# Altium footprint library Altium LCOGT PCB LIB.PCBLIB: 329 footprints (part 16 of 21)
Each footprint in its own frame and in the unit in brackets; x right, y up, seen from the top. Pads: shape width x height; smd on the part's side, far side on the other; paste and mask are expansions set on the pad; w line width, h text height; cw(c..) or ccw(c..) is an arc to the next point about the centre after c.
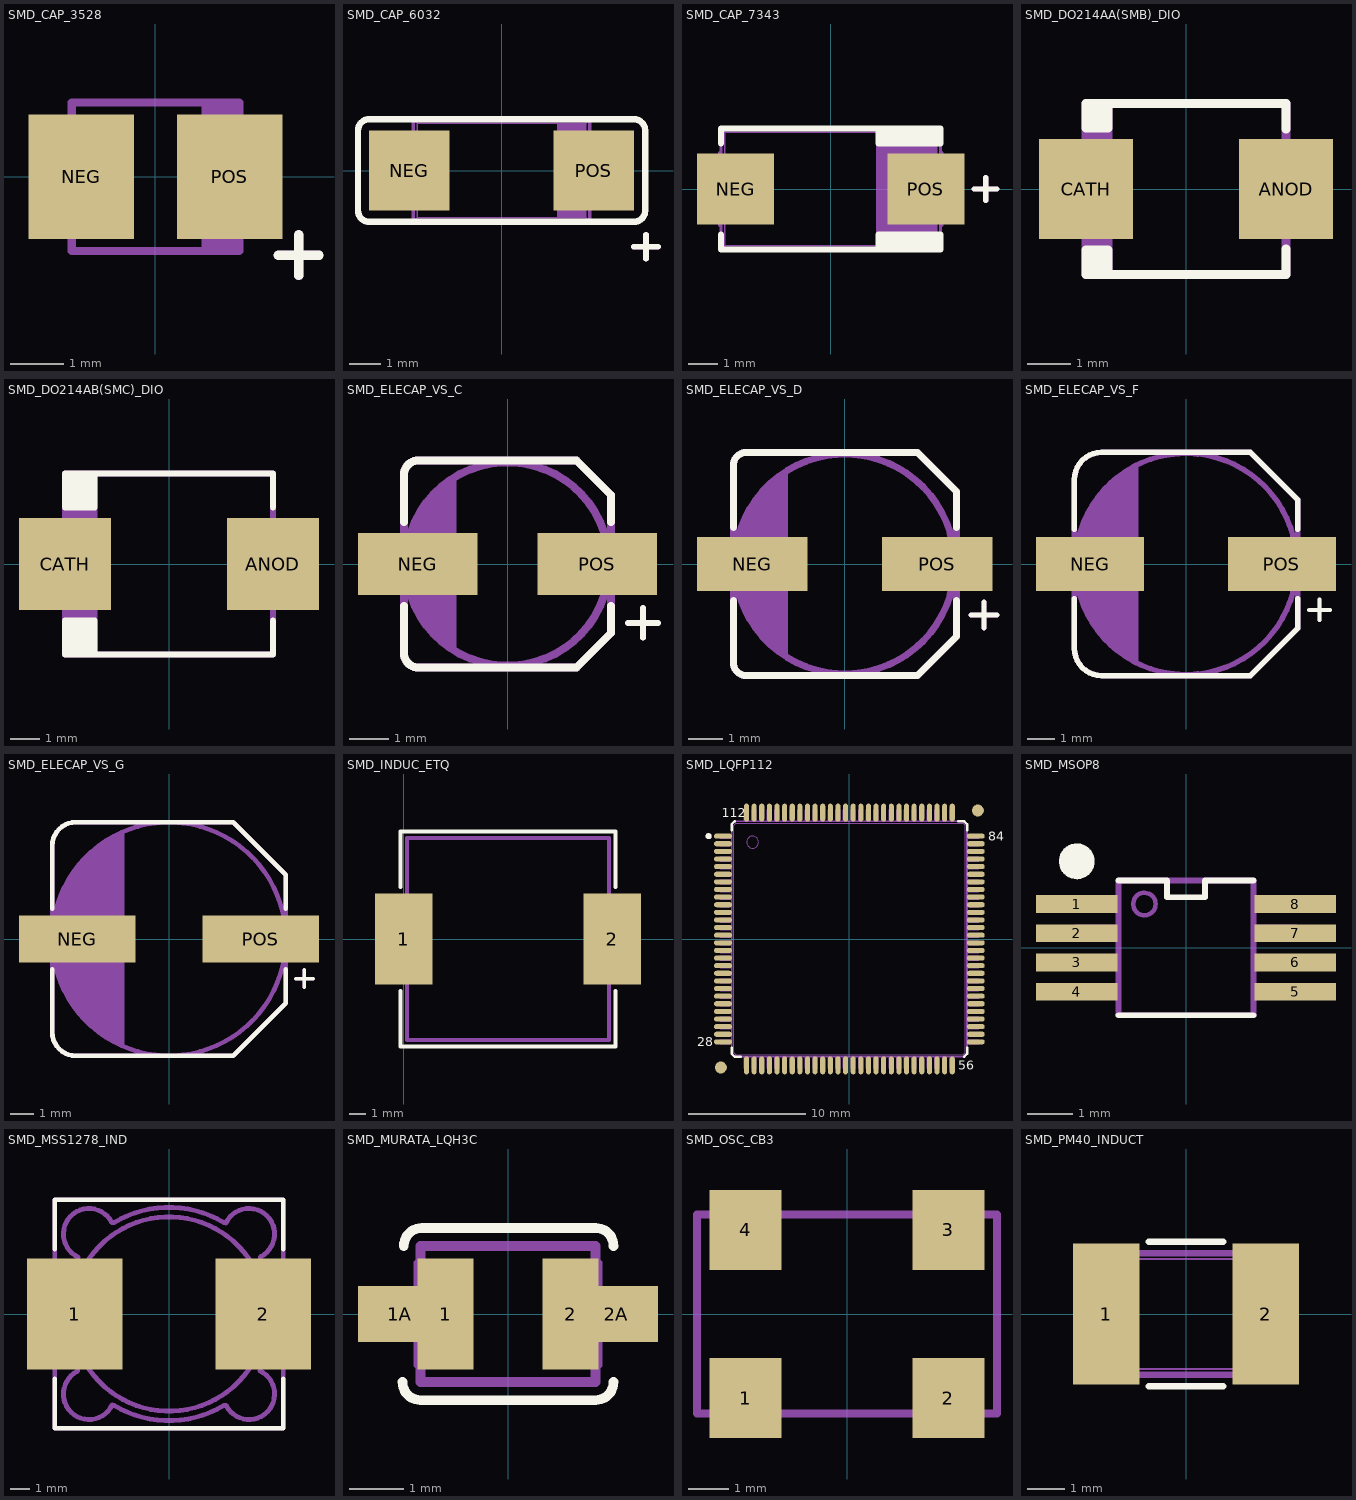
[diagram p15: the footprints below, top view; thin cyan lines are the x and y axes]

## SMD_CAP_3528 [mil]
pads (2):
  rect 78x92 smd: NEG(-55,0) POS(55,0)
TopOverlay:
  lines w7: 91,-58 121,-58 ; 106,-73 106,-43
Mechanical3:
  rectangle: 36,-55 62,55
  lines w4: -62,-43 -69,-43 -69,43 -62,43 ; 36,-55 36,55 ; 62,-43 69,-43 69,43 62,43
  lines w6: -62,-55 62,-55 62,55 -62,55 -62,-55
  lines w7: 91,-58 121,-58 ; 106,-73 106,-43

## SMD_CAP_6032 [mil]
pads (2):
  rect 100x100 smd: NEG(-115,0) POS(115,0)
TopOverlay:
  lines w7: 165,-95 195,-95 ; 180,-110 180,-80
  lines w8: -179,-50 ccw(c-165,-50) -165,-64 165,-64 ccw(c165,-50) 179,-50 179,50 ccw(c165,50) 165,64 -165,64 ccw(c-165,50) -179,50 -179,-50
Mechanical3:
  rectangle: 70,-59 105,59
  lines w2: -110,-63 -105,-59 ; -110,63 -105,59 ; 70,-59 70,59 ; 110,-63 105,-59 ; 110,63 105,59 ; -105,-59 105,-59 ; -105,-59 -105,59 ; -105,59 105,59 ; 105,-59 105,59
  lines w4: -110,-44 -114,-44 -114,44 -110,44 ; 110,-44 114,-44 114,-16 110,-16 ; 110,16 114,16 114,44 110,44 ; -110,-63 110,-63 110,63 -110,63 -110,-63
  lines w7: 165,-95 195,-95 ; 180,-110 180,-80

## SMD_CAP_7343 [mil]
pads (2):
  rect 102x94 smd: NEG(-126,0) POS(126,0)
TopOverlay:
  rectangle: 63,-80 145,-60
  rectangle: 63,60 145,80
  lines w7: 190,0 220,0 ; 205,-15 205,15
  lines w8: -145,-60 -145,-80 145,-80 145,-60 63,-60 63,-80 ; -145,60 -145,80 145,80 145,60 63,60 63,80
Mechanical3:
  rectangle: 60,-75 140,75
  lines w2: -145,-80 -140,-75 ; -145,80 -140,75 ; 145,-80 140,-75 ; 145,80 140,75 ; -140,-75 140,-75 ; -140,-75 -140,75 ; -140,75 140,75 ; 140,-75 140,75
  lines w4: -145,-48 -147,-48 -147,48 -145,48 ; 145,-48 147,-48 147,48 145,48 ; -145,-80 145,-80 145,80 -145,80 -145,-80
  lines w7: 190,0 220,0 ; 205,-15 205,15

## SMD_DO214AA(SMB)_DIO [mil]
pads (2):
  rect 85x90 smd: ANOD(90,0) CATH(-90,0)
TopOverlay:
  rectangle: -90,55 -70,77
  rectangle: -90,-77 -70,-55
  lines w8: -70,-77 -70,-55 -90,-55 -90,-77 90,-77 90,-54 ; -70,77 -70,55 -90,55 -90,77 90,77 90,54
Mechanical3:
  rectangle: -90,-77 -70,77
  lines w4: -90,-42 -110,-42 -110,42 -90,42 ; 90,-42 110,-42 110,42 90,42
  lines w8: -70,-77 -70,77 ; -90,-77 -90,77 90,77 90,-77 -90,-77

## SMD_DO214AB(SMC)_DIO [mil]
pads (2):
  rect 124x124 smd: ANOD(140,0) CATH(-140,0)
TopOverlay:
  rectangle: -140,76 -100,122
  rectangle: -140,-122 -100,-76
  lines w8: -100,-122 -100,-76 -140,-76 -140,-122 140,-122 140,-76 ; -100,122 -100,76 -140,76 -140,122 140,122 140,76
Mechanical3:
  rectangle: -138,-122 -100,122
  lines w4: -140,-60 -160,-60 -160,60 -140,60 ; 140,-60 160,-60 160,60 140,60
  lines w8: -100,-122 -100,122 ; -140,-122 140,-122 140,122 -140,122 -140,-122

## SMD_ELECAP_VS_C [mil]
pads (2):
  rect 120x62 smd: NEG(-90,0) POS(90,0)
TopOverlay:
  lines w6: 121,-59 151,-59 ; 136,-74 136,-44
  lines w8: -104,-42 -104,-89 ccw(c-89,-89) -89,-104 69,-104 104,-69 104,-42 ; -104,42 -104,89 cw(c-89,89) -89,104 69,104 104,69 104,42
Mechanical3:
  circle w8: c0,0 r102
  lines w4: -104,-12 -120,-12 -120,12 -104,12 ; 104,-12 120,-12 120,12 104,12
  lines w6: 121,-59 151,-59 ; 136,-74 136,-44
  lines w8: -99,-25 -99,25 ; -95,-32 -95,32 ; -91,-40 -91,40 ; -87,-48 -87,48 ; -83,-55 -83,55 ; -79,-59 -79,59 ; -75,-64 -75,65 ; -71,-69 -71,69 ; -67,-73 -67,73 ; -63,-77 -63,76 ; -59,-82 -59,82 ; -55,-85 -55,84 ; -104,-89 ccw(c-89,-89) -89,-104 69,-104 104,-69 104,69 69,104 -89,104 ccw(c-89,89) -104,89 -104,-89

## SMD_ELECAP_VS_D [mil]
pads (2):
  rect 128x62 smd: NEG(-107,0) POS(107,0)
TopOverlay:
  lines w6: 146,-59 176,-59 ; 161,-74 161,-44
  lines w8: -129,-42 -129,-114 ccw(c-114,-114) -114,-129 84,-129 129,-84 129,-42 ; -129,42 -129,114 cw(c-114,114) -114,129 84,129 129,84 129,42
Mechanical3:
  circle w8: c0,0 r127
  lines w4: -129,-13 -147,-13 -147,13 -129,13 ; 129,-13 147,-13 147,13 129,13
  lines w6: 146,-59 176,-59 ; 161,-74 161,-44
  lines w8: -122,-34 -122,34 ; -118,-41 -118,41 ; -114,-51 -114,51 ; -110,-60 -110,59 ; -106,-65 -106,65 ; -102,-74 -102,74 ; -98,-79 -98,79 ; -94,-83 -94,83 ; -90,-87 -90,87 ; -86,-90 -86,89 ; -82,-95 -82,95 ; -78,-98 -78,97 ; -74,-101 -74,101 ; -70,-105 -70,105 ; -129,-114 ccw(c-114,-114) -114,-129 84,-129 129,-84 129,84 84,129 -114,129 ccw(c-114,114) -129,114 -129,-114

## SMD_ELECAP_VS_F [mil]
pads (2):
  rect 158x79 smd: NEG(-140,0) POS(140,0)
TopOverlay:
  lines w6: 180,-67 210,-67 ; 195,-82 195,-52
  lines w8: -163,-51 -163,-123 ccw(c-123,-123) -123,-163 94,-163 163,-94 163,-51 ; -163,51 -163,123 cw(c-123,123) -123,163 94,163 163,94 163,51
Mechanical3:
  circle w8: c0,0 r161.5
  lines w4: -163,-16 -190,-16 -190,16 -163,16 ; 163,-16 190,-16 190,16 163,16
  lines w6: 180,-67 210,-67 ; 195,-82 195,-52
  lines w8: -158,-32 -158,0 -158,32 ; -156,-36 -156,0 -156,36 ; -152,-45 -152,0 -152,45 ; -149,-55 -149,0 -149,55 ; -145,-66 -145,0 -145,66 ; -141,-74 -141,0 -141,74 ; -137,-81 -137,0 -137,81 ; -133,-88 -133,0 -133,88 ; -129,-94 -129,0 -129,94 ; -124,-102 -124,0 -124,102 ; -120,-105 -120,0 -120,105 ; -116,-110 -116,0 -116,110 ; -112,-114 -112,0 -112,114 ; -108,-119 -108,0 -108,119 ; -104,-120 -104,0 -104,120 ; -100,-122 -100,-1 ; -100,1 -100,122 ; -97,-125 -97,0 -97,125 ; -93,-130 -93,0 -93,130 ; -89,-132 -89,0 -89,132 ; -85,-136 -85,0 -85,136 ; -81,-136 -81,0 -81,136 ; -77,-140 -77,0 -77,140 ; -73,-143 -73,0 -73,143 ; -163,-123 ccw(c-123,-123) -123,-163 94,-163 163,-94 163,94 94,163 -123,163 ccw(c-123,123) -163,123 -163,-123

## SMD_ELECAP_VS_G [mil]
pads (2):
  rect 200x80 smd: NEG(-157,0) POS(157,0)
TopOverlay:
  lines w6: 217,-68 247,-68 ; 232,-83 232,-53
  lines w8: -200,-52 -200,-160 ccw(c-160,-160) -160,-200 110,-200 200,-110 200,-52 ; -200,52 -200,160 cw(c-160,160) -160,200 110,200 200,110 200,52
Mechanical3:
  circle w8: c0,0 r200
  lines w4: -200,-18 -227,-18 -227,18 -200,18 ; 200,-18 227,-18 227,18 200,18
  lines w6: 217,-68 247,-68 ; 232,-83 232,-53
  lines w8: -197,-32 -197,0 -197,32 ; -195,-36 -195,0 -195,36 ; -191,-45 -191,0 -191,45 ; -188,-55 -188,0 -188,55 ; -184,-66 -184,0 -184,66 ; -180,-79 -180,0 -180,79 ; -176,-89 -176,0 -176,89 ; -172,-97 -172,0 -172,97 ; -168,-104 -168,0 -168,104 ; -163,-111 -163,0 -163,111 ; -159,-116 -159,0 -159,116 ; -155,-120 -155,0 -155,120 ; -151,-126 -151,0 -151,126 ; -147,-130 -147,0 -147,130 ; -143,-135 -143,0 -143,135 ; -139,-138 -139,-1 ; -139,1 -139,138 ; -136,-142 -136,0 -136,142 ; -132,-146 -132,0 -132,146 ; -128,-149 -128,0 -128,149 ; -124,-153 -124,0 -124,153 ; -120,-156 -120,0 -120,156 ; -116,-159 -116,0 -116,159 ; -112,-161 -112,0 -112,161 ; -108,-166 -108,0 -108,166 ; -104,-167 -104,0 -104,167 ; -100,-170 -100,0 -100,170 ; -96,-173 -96,0 -96,173 ; -92,-175 -92,0 -92,175 ; -88,-176 -88,0 -88,176 ; -84,-181 -84,0 -84,181 ; -80,-182 -80,0 -80,182 ; -200,-160 ccw(c-160,-160) -160,-200 110,-200 200,-110 200,110 110,200 -160,200 ccw(c-160,160) -200,160 -200,-160

## SMD_INDUC_ETQ [mm]
pads (2):
  rect 3.524x5.6 smd: 1(0,0) 2(12.8,0)
TopOverlay:
  lines w0.254: -0.2,-3.2 -0.2,-6.6 13,-6.6 13,-3.2 ; -0.2,3.2 -0.2,6.6 13,6.6 13,3.2
Mechanical3:
  lines w0.254: 0.2,-6.2 0.2,6.2 12.6,6.2 12.6,-6.2 6.4,-6.2 0.2,-6.2

## SMD_LQFP112 [mil]
pads (114):
  oval 60x17 smd: 1(-423,344.25) 2(-423,318.75) 3(-423,293.25) 4(-423,267.75) 5(-423,242.25) 6(-423,216.75) 7(-423,191.25) 8(-423,165.75) 9(-423,140.25) 10(-423,114.75) 11(-423,89.25) 12(-423,63.75) 13(-423,38.25) 14(-423,12.75) 15(-423,-12.75) 16(-423,-38.25) 17(-423,-63.75) 18(-423,-89.25) 19(-423,-114.75) 20(-423,-140.25) 21(-423,-165.75) 22(-423,-191.25) 23(-423,-216.75) 24(-423,-242.25) 25(-423,-267.75) 26(-423,-293.25) 27(-423,-318.75) 28(-423,-344.25) 57(423,-344.25) 58(423,-318.75) 59(423,-293.25) 60(423,-267.75) 61(423,-242.25) 62(423,-216.75) 63(423,-191.25) 64(423,-165.75) 65(423,-140.25) 66(423,-114.75) 67(423,-89.25) 68(423,-63.75) 69(423,-38.25) 70(423,-12.75) 71(423,12.75) 72(423,38.25) 73(423,63.75) 74(423,89.25) 75(423,114.75) 76(423,140.25) 77(423,165.75) 78(423,191.25) 79(423,216.75) 80(423,242.25) 81(423,267.75) 82(423,293.25) 83(423,318.75) 84(423,344.25)
  oval 17x60 smd: 29(-344.25,-423) 30(-318.75,-423) 31(-293.25,-423) 32(-267.75,-423) 33(-242.25,-423) 34(-216.75,-423) 35(-191.25,-423) 36(-165.75,-423) 37(-140.25,-423) 38(-114.75,-423) 39(-89.25,-423) 40(-63.75,-423) 41(-38.25,-423) 42(-12.75,-423) 43(12.75,-423) 44(38.25,-423) 45(63.75,-423) 46(89.25,-423) 47(114.75,-423) 48(140.25,-423) 49(165.75,-423) 50(191.25,-423) 51(216.75,-423) 52(242.25,-423) 53(267.75,-423) 54(293.25,-423) 55(318.75,-423) 56(344.25,-423) 85(344.25,423) 86(318.75,423) 87(293.25,423) 88(267.75,423) 89(242.25,423) 90(216.75,423) 91(191.25,423) 92(165.75,423) 93(140.25,423) 94(114.75,423) 95(89.25,423) 96(63.75,423) 97(38.25,423) 98(12.75,423) 99(-12.75,423) 100(-38.25,423) 101(-63.75,423) 102(-89.25,423) 103(-114.75,423) 104(-140.25,423) 105(-165.75,423) 106(-191.25,423) 107(-216.75,423) 108(-242.25,423) 109(-267.75,423) 110(-293.25,423) 111(-318.75,423) 112(-344.25,423)
  round 40 smd: ""(-430,-430) ""(430,430)
TopOverlay:
  circle w8: c-471,344.25 r6
  lines w8: -475,344.25 -467,344.25 ; -471,340.25 -471,348.25 ; -394,-364 -394,-384 -384,-394 -364,-394 ; -394,364 -394,384 -384,394 ; 364,394 384,394 394,384 394,364 ; 384,-394 394,-384 394,-364
  text "84" at 464,329 h30
  text "56" at 364,-437.75 h30
  text "28" at -510,-359 h30
  text "112" at -428,408.25 h30
Mechanical3:
  drawing of 588 lines, arcs and shapes, not listed

## SMD_MSOP8 [mm]
pads (8):
  rect 1.812x0.396 smd: 1(-2.431,0.975) 2(-2.431,0.325) 3(-2.431,-0.325) 4(-2.431,-0.975) 5(2.431,-0.975) 6(2.431,-0.325) 7(2.431,0.325) 8(2.431,0.975)
TopOverlay:
  circle w0.1: c-2.431,1.925 r0.35
  circle w0.32: c-2.425,1.925 r0.15
  lines w0.127: -1.5,-1.5 1.5,-1.5 ; -1.5,1.5 -0.425,1.5 -0.425,1.125 0.425,1.125 0.425,1.5 1.5,1.5
Mechanical3:
  circle w0.1: c-0.925,0.975 r0.25
  lines w0.08: -1.85,-1.125 -1.85,-0.825 ; -1.85,-0.475 -1.85,-0.175 ; -1.85,0.175 -1.85,0.475 ; -1.85,0.825 -1.85,1.125 ; 1.85,-1.125 1.85,-0.825 ; 1.85,-0.475 1.85,-0.175 ; 1.85,0.175 1.85,0.475 ; 1.85,0.825 1.85,1.125 ; -2.45,-1.125 -1.5,-1.125 -1.5,-0.975 -1.5,-0.825 -2.45,-0.825 -2.45,-1.125 ; -2.45,-0.475 -1.5,-0.475 -1.5,-0.325 -1.5,-0.175 -2.45,-0.175 -2.45,-0.475 ; -2.45,0.175 -1.5,0.175 -1.5,0.325 -1.5,0.475 -2.45,0.475 -2.45,0.175 ; -2.45,0.825 -2.45,1.125 -1.5,1.125 -1.5,0.975 -1.5,0.825 -2.45,0.825 ; 1.5,-1.125 1.5,-0.975 1.5,-0.825 2.45,-0.825 2.45,-1.125 1.5,-1.125 ; 1.5,-0.475 1.5,-0.325 1.5,-0.175 2.45,-0.175 2.45,-0.475 1.5,-0.475 ; 1.5,0.175 1.5,0.325 1.5,0.475 2.45,0.475 2.45,0.175 1.5,0.175 ; 1.5,0.825 1.5,0.975 1.5,1.125 2.45,1.125 2.45,0.825 1.5,0.825
  lines w0.127: -1.5,-1.5 1.5,-1.5 1.5,1.5 -1.5,1.5 -1.5,0 -1.5,-1.5

## SMD_MSS1278_IND [mil] "Coilcraft MSS1278 SMD Inductor Series"
height 316.93
pads (2):
  rect 196.85x230 smd: 1(-195,0) 2(195,0)
TopOverlay:
  lines w10: -236.22,-133.86 -236.22,-236.22 236.22,-236.22 236.22,-133.86 ; -236.22,133.86 -236.22,236.22 236.22,236.22 236.22,133.86
Mechanical3:
  circle w10: c0,0 r200.79
  lines w10: -188.98,-118.11 ccw(c-165.35,-165.35) -117.4,-187.49 ; -188.71,-114.01 cw(c0,0) -188.71,114.01 ; -187.49,117.4 cw(c-165.35,165.35) -118.11,188.98 ; -114.01,-188.71 ccw(c0,0) 114.01,-188.71 ; -114.01,188.71 cw(c0,0) 114.01,188.71 ; 117.4,187.49 cw(c165.35,165.35) 188.98,118.11 ; 118.11,-188.98 ccw(c165.35,-165.35) 187.49,-117.4 ; 188.71,-114.01 ccw(c0,0) 188.71,114.01 ; -236.22,-236.22 -236.22,236.22 0,236.22 236.22,236.22 236.22,-236.22 0,-236.22 -236.22,-236.22

## SMD_MURATA_LQH3C [mil]
pads (4):
  rect 40x80 smd: 1(-45,0) 2(45,0)
  rect 60x40 smd: 1A(-78,0) 2A(78,0)
TopOverlay:
  lines w7: -76,-49 ccw(c-63,-49) -63,-62 63,-62 ccw(c63,-49) 76,-49 ; -75,49 cw(c-62,49) -62,62 63,62 cw(c63,49) 76,49
Mechanical3:
  lines w4: -61,-37 -66,-37 -66,37 -61,37 ; 61,-37 66,-37 66,37 61,37
  lines w7: -63,-49 -63,49 63,49 63,-49 -63,-49

## SMD_OSC_CB3 [mil]
pads (4):
  rect 71x79 smd: 1(-100,-83) 2(100,-83) 3(100,83) 4(-100,83)
Mechanical3:
  lines w8: -148,-98 -148,98 148,98 148,-98 -148,-98

## SMD_PM40_INDUCT [mil]
pads (2):
  rect 70x148 smd: 1(-84,0) 2(84,0)
TopOverlay:
  lines w7: -39,-76 39,-76 ; -39,76 39,76
Mechanical3:
  lines w2: -89,-64 -80,-58 ; -89,64 -80,58 ; 89,-64 80,-58 ; 89,64 80,58 ; -80,-58 80,-58 ; -80,-58 -80,58 ; -80,58 80,58 ; 80,-58 80,58
  lines w7: -89,-64 -89,64 89,64 89,-64 -89,-64